# Altium integrated library Cypress PLD Ultra37000.IntLib: 166 symbols (part 12 of 12)
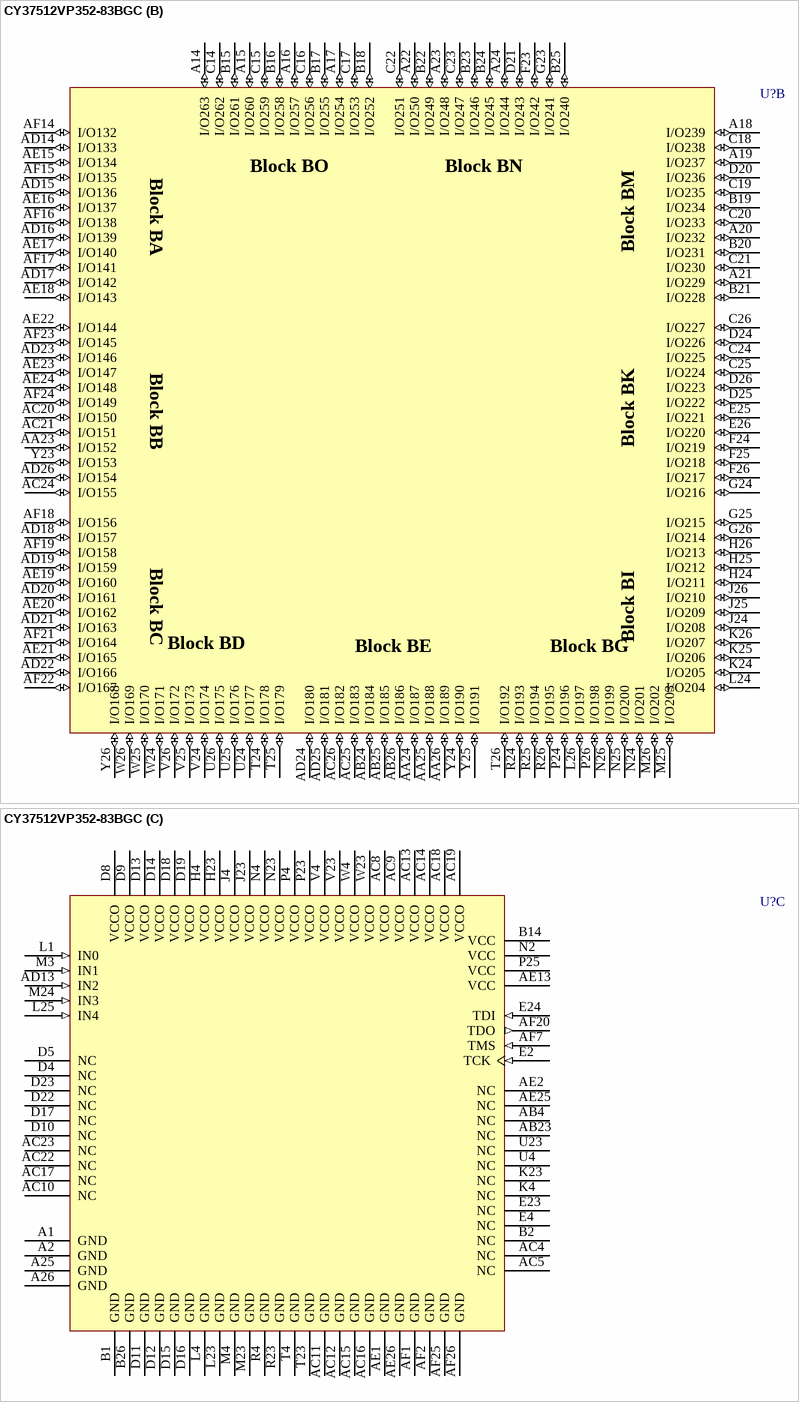
[diagram p101: symbol CY37512VP352-83BGC]

## CY37512VP352-83BGC
designator U?
Ultra37000 3.3V, ISR High-Performance CPLD; Published: 11-Dec-2002; LatestRevisionDate: 13-Apr-2006; LatestRevisionNote: IPC-7351 Footprint Added.; DatasheetVersion: 18-Apr-2001; PackageVersion: Mar-2001; PackageReference: BG352; Publisher: Altium Limited; PackageDescription: 388-Ball Ball Grid Array 1.27 mm Pitch; ComponentLink1Description: Manufacturer Link; ComponentLink1URL: http://www.cypress.com/; ComponentLink2Description: Datasheet; ComponentLink2URL: http://www.cypress.com/portal/server.pt/gateway/PTARGS_0_2_1524_209_259_43/http%3B/sjapp20.mis.cypress.com%3B7001/publishedcontent/publish/design_resources/datasheets/contents/cy37032p_5.pdf
footprint BG352 (BGA, 388-Leads, Body 35x35mm, Pitch 1.27mm)
3D model CY37512VP352-BG352 (388-Ball Ball Grid Array 1.27 mm Pitch)
part A pins: A3 I/O19 (io), A4 I/O15 (io), A5 I/O13 (io), A6 I/O34 (io), A7 I/O31 (io), A8 I/O28 (io), A9 I/O25 (io), A10 I/O10 (io), A11 I/O7 (io), A12 I/O4 (io), A13 I/O1 (io), AA1 I/O74 (io), AA2 I/O75 (io), AA3 I/O76 (io), AA4 I/O111 (io), AB1 I/O77 (io), AB2 I/O78 (io), AB3 I/O79 (io), AC1 I/O81 (io), AC2 I/O80 (io), AC3 I/O108 (io), AC6 I/O112 (io), AC7 I/O113 (io), AD1 I/O109 (io), AD2 I/O82 (io), AD3 I/O83 (io), AD4 I/O117 (io), AD5 I/O97 (io), AD6 I/O100 (io), AD7 I/O102 (io), AD8 I/O105 (io), AD9 I/O120 (io), AD10 I/O123 (io), AD11 I/O126 (io), AD12 I/O129 (io), AE3 I/O115 (io), AE4 I/O116 (io), AE5 I/O119 (io), AE6 I/O98 (io), AE7 I/O101 (io), AE8 I/O103 (io), AE9 I/O106 (io), AE10 I/O121 (io), AE11 I/O124 (io), AE12 I/O127 (io), AE14 I/O130 (io), AF3 I/O114 (io), AF4 I/O118 (io), AF5 I/O96 (io), AF6 I/O99 (io), AF8 I/O104 (io), AF9 I/O107 (io), AF10 I/O122 (io), AF11 I/O125 (io), AF12 I/O128 (io), AF13 I/O131 (io), B3 I/O18 (io), B4 I/O17 (io), B5 I/O14 (io), B6 I/O35 (io), B7 I/O32 (io), B8 I/O29 (io), B9 I/O26 (io), B10 I/O11 (io), B11 I/O8 (io), B12 I/O5 (io), B13 I/O2 (io), C1 I/O23 (io), C2 I/O38 (io), C3 I/O37 (io), C4 I/O16 (io), C5 I/O12 (io), C6 I/O33 (io), C7 I/O30 (io), C8 I/O27 (io), C9 I/O24 (io), C10 I/O9 (io), C11 I/O6 (io), C12 I/O3 (io), C13 I/O0 (io), D1 I/O39 (io), D2 I/O40 (io), D3 I/O36 (io), D6 I/O21 (io), D7 I/O20 (io), E1 I/O42 (io), E3 I/O41 (io), F1 I/O45 (io), F2 I/O44 (io), F3 I/O43 (io), F4 I/O22 (io), G1 I/O48 (io), G2 I/O47 (io), G3 I/O46 (io), G4 I/O63 (io), H1 I/O49 (io), H2 I/O50 (io), H3 I/O51 (io), J1 I/O52 (io), J2 I/O53 (io), J3 I/O54 (io), K1 I/O55 (io), K2 I/O56 (io), K3 I/O57 (io), L2 I/O59 (io), L3 I/O58 (io), M1 I/O61 (io), M2 I/O60 (io), N1 I/O64 (io), N3 I/O62 (io), P1 I/O65 (io), P2 I/O66 (io), P3 I/O67 (io), R1 I/O68 (io), R2 I/O69 (io), R3 I/O70 (io), T1 I/O71 (io), T2 I/O84 (io), T3 I/O85 (io), U1 I/O88 (io), U2 I/O87 (io), U3 I/O86 (io), V1 I/O91 (io), V2 I/O90 (io), V3 I/O89 (io), W1 I/O94 (io), W2 I/O93 (io), W3 I/O92 (io), Y1 I/O95 (io), Y2 I/O72 (io), Y3 I/O73 (io), Y4 I/O110 (io)
part B pins: A14 I/O263 (io), A15 I/O260 (io), A16 I/O257 (io), A17 I/O254 (io), A18 I/O239 (io), A19 I/O237 (io), A20 I/O232 (io), A21 I/O229 (io), A22 I/O250 (io), A23 I/O248 (io), A24 I/O244 (io), AA23 I/O152 (io), AA24 I/O187 (io), AA25 I/O188 (io), AA26 I/O189 (io), AB24 I/O184 (io), AB25 I/O185 (io), AB26 I/O186 (io), AC20 I/O150 (io), AC21 I/O151 (io), AC24 I/O155 (io), AC25 I/O183 (io), AC26 I/O182 (io), AD14 I/O133 (io), AD15 I/O136 (io), AD16 I/O139 (io), AD17 I/O142 (io), AD18 I/O157 (io), AD19 I/O159 (io), AD20 I/O161 (io), AD21 I/O163 (io), AD22 I/O166 (io), AD23 I/O146 (io), AD24 I/O180 (io), AD25 I/O181 (io), AD26 I/O154 (io), AE15 I/O134 (io), AE16 I/O137 (io), AE17 I/O140 (io), AE18 I/O143 (io), AE19 I/O160 (io), AE20 I/O162 (io), AE21 I/O165 (io), AE22 I/O144 (io), AE23 I/O147 (io), AE24 I/O148 (io), AF14 I/O132 (io), AF15 I/O135 (io), AF16 I/O138 (io), AF17 I/O141 (io), AF18 I/O156 (io), AF19 I/O158 (io), AF21 I/O164 (io), AF22 I/O167 (io), AF23 I/O145 (io), AF24 I/O149 (io), B15 I/O261 (io), B16 I/O258 (io), B17 I/O255 (io), B18 I/O252 (io), B19 I/O234 (io), B20 I/O231 (io), B21 I/O228 (io), B22 I/O249 (io), B23 I/O246 (io), B24 I/O245 (io), B25 I/O240 (io), C14 I/O262 (io), C15 I/O259 (io), C16 I/O256 (io), C17 I/O253 (io), C18 I/O238 (io), C19 I/O235 (io), C20 I/O233 (io), C21 I/O230 (io), C22 I/O251 (io), C23 I/O247 (io), C24 I/O225 (io), C25 I/O224 (io), C26 I/O227 (io), D20 I/O236 (io), D21 I/O243 (io), D24 I/O226 (io), D25 I/O222 (io), D26 I/O223 (io), E25 I/O221 (io), E26 I/O220 (io), F23 I/O242 (io), F24 I/O219 (io), F25 I/O218 (io), F26 I/O217 (io), G23 I/O241 (io), G24 I/O216 (io), G25 I/O215 (io), G26 I/O214 (io), H24 I/O211 (io), H25 I/O212 (io), H26 I/O213 (io), J24 I/O208 (io), J25 I/O209 (io), J26 I/O210 (io), K24 I/O205 (io), K25 I/O206 (io), K26 I/O207 (io), L24 I/O204 (io), L26 I/O197 (io), M25 I/O203 (io), M26 I/O202 (io), N24 I/O201 (io), N25 I/O200 (io), N26 I/O199 (io), P24 I/O196 (io), P26 I/O198 (io), R24 I/O193 (io), R25 I/O194 (io), R26 I/O195 (io), T24 I/O178 (io), T25 I/O179 (io), T26 I/O192 (io), U24 I/O177 (io), U25 I/O176 (io), U26 I/O175 (io), V24 I/O174 (io), V25 I/O173 (io), V26 I/O172 (io), W24 I/O171 (io), W25 I/O170 (io), W26 I/O169 (io), Y23 I/O153 (io), Y24 I/O190 (io), Y25 I/O191 (io), Y26 I/O168 (io)
part C pins: A1 GND (power), A2 GND (power), A25 GND (power), A26 GND (power), AB4 NC, AB23 NC, AC4 NC, AC5 NC, AC8 VCCO (power), AC9 VCCO (power), AC10 NC, AC11 GND (power), AC12 GND (power), AC13 VCCO (power), AC14 VCCO (power), AC15 GND (power), AC16 GND (power), AC17 NC, AC18 VCCO (power), AC19 VCCO (power), AC22 NC, AC23 NC, AD13 IN2 (in), AE1 GND (power), AE2 NC, AE13 VCC (power), AE25 NC, AE26 GND (power), AF1 GND (power), AF2 GND (power), AF7 TMS (in), AF20 TDO (out), AF25 GND (power), AF26 GND (power), B1 GND (power), B2 NC, B14 VCC (power), B26 GND (power), D4 NC, D5 NC, D8 VCCO (power), D9 VCCO (power), D10 NC, D11 GND (power), D12 GND (power), D13 VCCO (power), D14 VCCO (power), D15 GND (power), D16 GND (power), D17 NC, D18 VCCO (power), D19 VCCO (power), D22 NC, D23 NC, E2 TCK (in), E4 NC, E23 NC, E24 TDI (in), H4 VCCO (power), H23 VCCO (power), J4 VCCO (power), J23 VCCO (power), K4 NC, K23 NC, L1 IN0 (in), L4 GND (power), L23 GND (power), L25 IN4 (in), M3 IN1 (in), M4 GND (power), M23 GND (power), M24 IN3 (in), N2 VCC (power), N4 VCCO (power), N23 VCCO (power), P4 VCCO (power), P23 VCCO (power), P25 VCC (power), R4 GND (power), R23 GND (power), T4 GND (power), T23 GND (power), U4 NC, U23 NC, V4 VCCO (power), V23 VCCO (power), W4 VCCO (power), W23 VCCO (power)
part A text: Block AA; Block AO; Block AN; Block AM; Block AB; Block AL; Block AC; Block AK; Block AE; Block AG; Block AI
part B text: Block BA; Block BO; Block BN; Block BM; Block BB; Block BK; Block BC; Block BI; Block BD; Block BE; Block BG

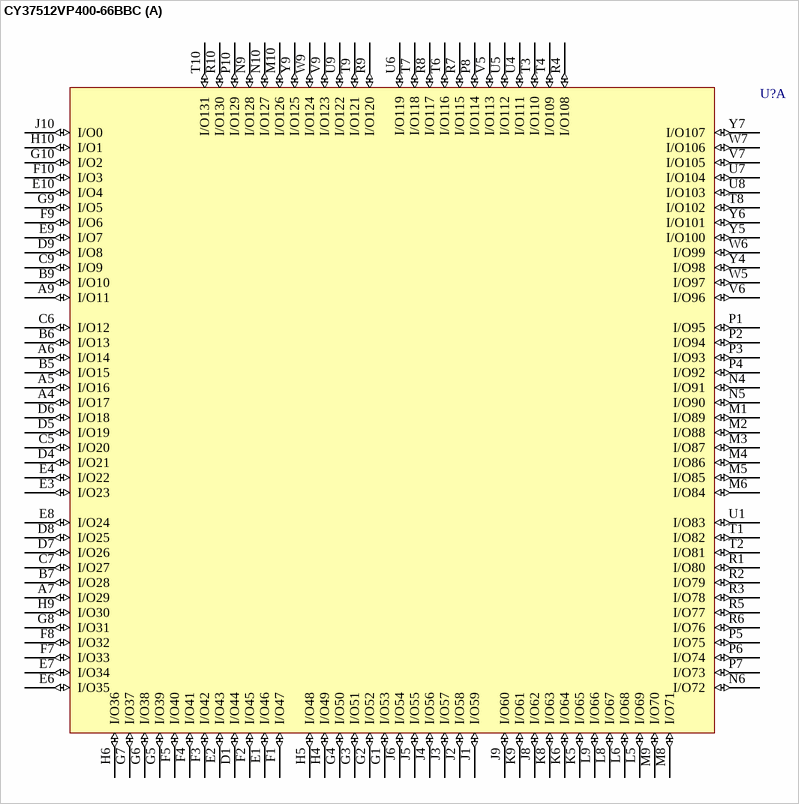
[diagram p85: symbol CY37512VP400-66BBC]

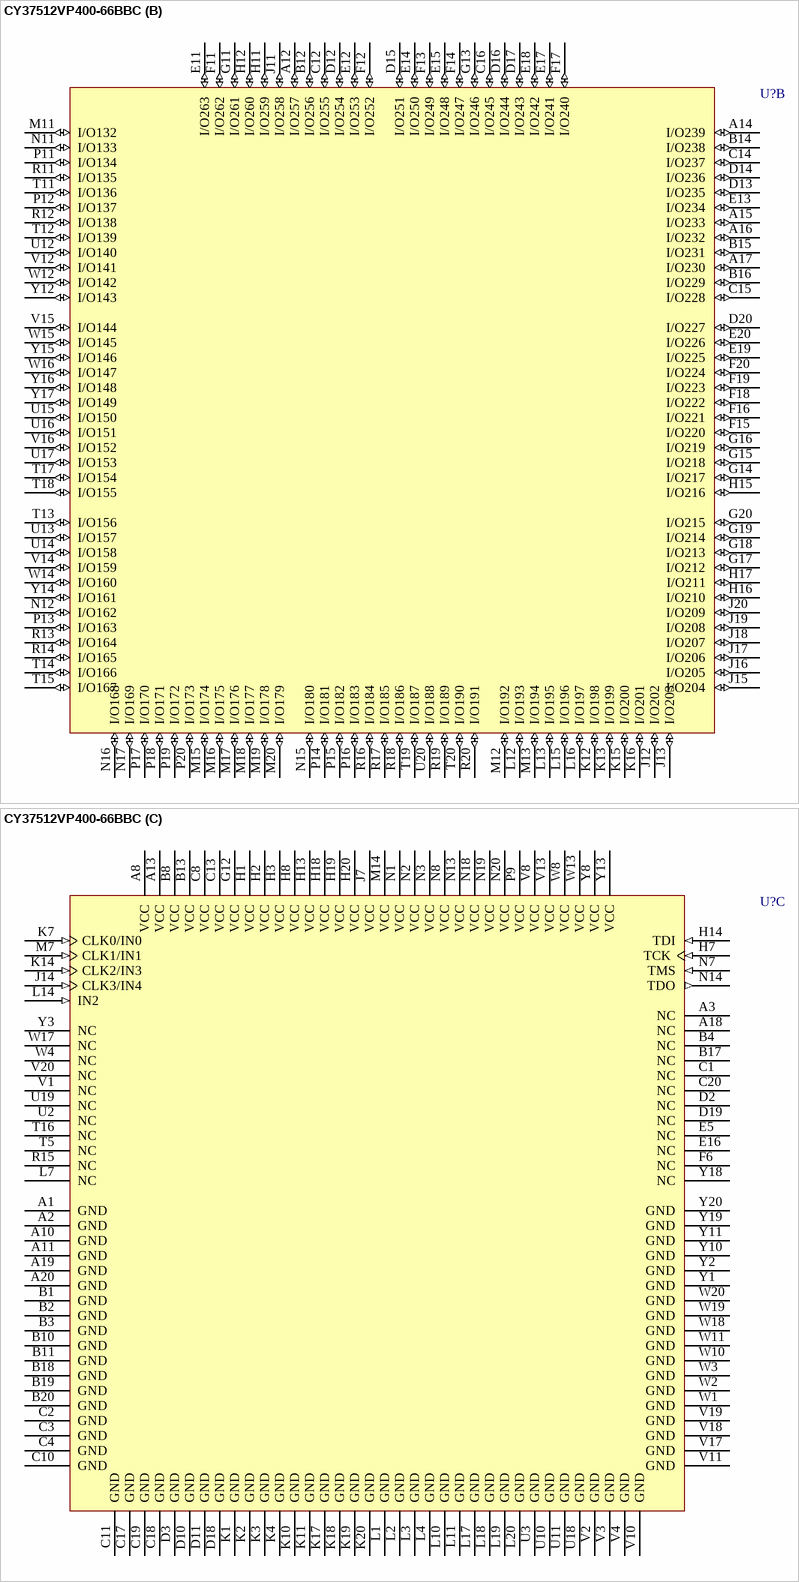
[diagram p86: symbol CY37512VP400-66BBC]

## CY37512VP400-66BBC
designator U?
Ultra37000 3.3V, ISR High-Performance CPLD; Published: 11-Dec-2002; LatestRevisionDate: 13-Apr-2006; LatestRevisionNote: IPC-7351 Footprint Added.; DatasheetVersion: 18-Apr-2001; PackageVersion: Mar-2001; PackageReference: BB400; Publisher: Altium Limited; PackageDescription: 400-Ball Fine Pitch Ball Grid Array 1 mm Pitch; ComponentLink1Description: Manufacturer Link; ComponentLink1URL: http://www.cypress.com/; ComponentLink2Description: Datasheet; ComponentLink2URL: http://www.cypress.com/portal/server.pt/gateway/PTARGS_0_2_1524_209_259_43/http%3B/sjapp20.mis.cypress.com%3B7001/publishedcontent/publish/design_resources/datasheets/contents/cy37032p_5.pdf
footprint BB400 (BGA, 400-Leads, Body 21x21mm, Pitch 1mm)
3D model CY37512VP400-BB400 (400-Ball Fine Pitch Ball Grid Array 1 mm Pitch)
part A pins: A4 I/O17 (io), A5 I/O16 (io), A6 I/O14 (io), A7 I/O29 (io), A9 I/O11 (io), B5 I/O15 (io), B6 I/O13 (io), B7 I/O28 (io), B9 I/O10 (io), C5 I/O20 (io), C6 I/O12 (io), C7 I/O27 (io), C9 I/O9 (io), D1 I/O44 (io), D4 I/O21 (io), D5 I/O19 (io), D6 I/O18 (io), D7 I/O26 (io), D8 I/O25 (io), D9 I/O8 (io), E1 I/O46 (io), E2 I/O43 (io), E3 I/O23 (io), E4 I/O22 (io), E6 I/O35 (io), E7 I/O34 (io), E8 I/O24 (io), E9 I/O7 (io), E10 I/O4 (io), F1 I/O47 (io), F2 I/O45 (io), F3 I/O42 (io), F4 I/O41 (io), F5 I/O40 (io), F7 I/O33 (io), F8 I/O32 (io), F9 I/O6 (io), F10 I/O3 (io), G1 I/O53 (io), G2 I/O52 (io), G3 I/O51 (io), G4 I/O50 (io), G5 I/O39 (io), G6 I/O38 (io), G7 I/O37 (io), G8 I/O31 (io), G9 I/O5 (io), G10 I/O2 (io), H4 I/O49 (io), H5 I/O48 (io), H6 I/O36 (io), H9 I/O30 (io), H10 I/O1 (io), J1 I/O59 (io), J2 I/O58 (io), J3 I/O57 (io), J4 I/O56 (io), J5 I/O55 (io), J6 I/O54 (io), J8 I/O62 (io), J9 I/O60 (io), J10 I/O0 (io), K5 I/O65 (io), K6 I/O64 (io), K8 I/O63 (io), K9 I/O61 (io), L5 I/O69 (io), L6 I/O68 (io), L8 I/O67 (io), L9 I/O66 (io), M1 I/O89 (io), M2 I/O88 (io), M3 I/O87 (io), M4 I/O86 (io), M5 I/O85 (io), M6 I/O84 (io), M8 I/O71 (io), M9 I/O70 (io), M10 I/O126 (io), N4 I/O91 (io), N5 I/O90 (io), N6 I/O72 (io), N9 I/O128 (io), N10 I/O127 (io), P1 I/O95 (io), P2 I/O94 (io), P3 I/O93 (io), P4 I/O92 (io), P5 I/O75 (io), P6 I/O74 (io), P7 I/O73 (io), P8 I/O114 (io), P10 I/O129 (io), R1 I/O80 (io), R2 I/O79 (io), R3 I/O78 (io), R4 I/O108 (io), R5 I/O77 (io), R6 I/O76 (io), R7 I/O115 (io), R8 I/O117 (io), R9 I/O120 (io), R10 I/O130 (io), T1 I/O82 (io), T2 I/O81 (io), T3 I/O110 (io), T4 I/O109 (io), T6 I/O116 (io), T7 I/O118 (io), T8 I/O102 (io), T9 I/O121 (io), T10 I/O131 (io), U1 I/O83 (io), U4 I/O111 (io), U5 I/O112 (io), U6 I/O119 (io), U7 I/O104 (io), U8 I/O103 (io), U9 I/O122 (io), V5 I/O113 (io), V6 I/O96 (io), V7 I/O105 (io), V9 I/O123 (io), W5 I/O97 (io), W6 I/O99 (io), W7 I/O106 (io), W9 I/O124 (io), Y4 I/O98 (io), Y5 I/O100 (io), Y6 I/O101 (io), Y7 I/O107 (io), Y9 I/O125 (io)
part B pins: A12 I/O257 (io), A14 I/O239 (io), A15 I/O233 (io), A16 I/O232 (io), A17 I/O230 (io), B12 I/O256 (io), B14 I/O238 (io), B15 I/O231 (io), B16 I/O229 (io), C12 I/O255 (io), C14 I/O237 (io), C15 I/O228 (io), C16 I/O245 (io), D12 I/O254 (io), D13 I/O235 (io), D14 I/O236 (io), D15 I/O251 (io), D16 I/O244 (io), D17 I/O243 (io), D20 I/O227 (io), E11 I/O263 (io), E12 I/O253 (io), E13 I/O234 (io), E14 I/O250 (io), E15 I/O248 (io), E17 I/O241 (io), E18 I/O242 (io), E19 I/O225 (io), E20 I/O226 (io), F11 I/O262 (io), F12 I/O252 (io), F13 I/O249 (io), F14 I/O247 (io), F15 I/O220 (io), F16 I/O221 (io), F17 I/O240 (io), F18 I/O222 (io), F19 I/O223 (io), F20 I/O224 (io), G11 I/O261 (io), G13 I/O246 (io), G14 I/O217 (io), G15 I/O218 (io), G16 I/O219 (io), G17 I/O212 (io), G18 I/O213 (io), G19 I/O214 (io), G20 I/O215 (io), H11 I/O259 (io), H12 I/O260 (io), H15 I/O216 (io), H16 I/O210 (io), H17 I/O211 (io), J11 I/O258 (io), J12 I/O202 (io), J13 I/O203 (io), J15 I/O204 (io), J16 I/O205 (io), J17 I/O206 (io), J18 I/O207 (io), J19 I/O208 (io), J20 I/O209 (io), K12 I/O198 (io), K13 I/O199 (io), K15 I/O200 (io), K16 I/O201 (io), L12 I/O193 (io), L13 I/O195 (io), L15 I/O196 (io), L16 I/O197 (io), M11 I/O132 (io), M12 I/O192 (io), M13 I/O194 (io), M15 I/O174 (io), M16 I/O175 (io), M17 I/O176 (io), M18 I/O177 (io), M19 I/O178 (io), M20 I/O179 (io), N11 I/O133 (io), N12 I/O162 (io), N15 I/O180 (io), N16 I/O168 (io), N17 I/O169 (io), P11 I/O134 (io), P12 I/O137 (io), P13 I/O163 (io), P14 I/O181 (io), P15 I/O182 (io), P16 I/O183 (io), P17 I/O170 (io), P18 I/O171 (io), P19 I/O172 (io), P20 I/O173 (io), R11 I/O135 (io), R12 I/O138 (io), R13 I/O164 (io), R14 I/O165 (io), R16 I/O184 (io), R17 I/O185 (io), R18 I/O186 (io), R19 I/O189 (io), R20 I/O191 (io), T11 I/O136 (io), T12 I/O139 (io), T13 I/O156 (io), T14 I/O166 (io), T15 I/O167 (io), T17 I/O154 (io), T18 I/O155 (io), T19 I/O187 (io), T20 I/O190 (io), U12 I/O140 (io), U13 I/O157 (io), U14 I/O158 (io), U15 I/O150 (io), U16 I/O151 (io), U17 I/O153 (io), U20 I/O188 (io), V12 I/O141 (io), V14 I/O159 (io), V15 I/O144 (io), V16 I/O152 (io), W12 I/O142 (io), W14 I/O160 (io), W15 I/O145 (io), W16 I/O147 (io), Y12 I/O143 (io), Y14 I/O161 (io), Y15 I/O146 (io), Y16 I/O148 (io), Y17 I/O149 (io)
part C pins: A1 GND (power), A2 GND (power), A3 NC, A8 VCC (power), A10 GND (power), A11 GND (power), A13 VCC (power), A18 NC, A19 GND (power), A20 GND (power), B1 GND (power), B2 GND (power), B3 GND (power), B4 NC, B8 VCC (power), B10 GND (power), B11 GND (power), B13 VCC (power), B17 NC, B18 GND (power), B19 GND (power), B20 GND (power), C1 NC, C2 GND (power), C3 GND (power), C4 GND (power), C8 VCC (power), C10 GND (power), C11 GND (power), C13 VCC (power), C17 GND (power), C18 GND (power), C19 GND (power), C20 NC, D2 NC, D3 GND (power), D10 GND (power), D11 GND (power), D18 GND (power), D19 NC, E5 NC, E16 NC, F6 NC, G12 VCC (power), H1 VCC (power), H2 VCC (power), H3 VCC (power), H7 TCK (in), H8 VCC (power), H13 VCC (power), H14 TDI (in), H18 VCC (power), H19 VCC (power), H20 VCC (power), J7 VCC (power), J14 CLK3/IN4 (in), K1 GND (power), K2 GND (power), K3 GND (power), K4 GND (power), K7 CLK0/IN0 (in), K10 GND (power), K11 GND (power), K14 CLK2/IN3 (in), K17 GND (power), K18 GND (power), K19 GND (power), K20 GND (power), L1 GND (power), L2 GND (power), L3 GND (power), L4 GND (power), L7 NC, L10 GND (power), L11 GND (power), L14 IN2 (in), L17 GND (power), L18 GND (power), L19 GND (power), L20 GND (power), M7 CLK1/IN1 (in), M14 VCC (power), N1 VCC (power), N2 VCC (power), N3 VCC (power), N7 TMS (in), N8 VCC (power), N13 VCC (power), N14 TDO (out), N18 VCC (power), N19 VCC (power), N20 VCC (power), P9 VCC (power), R15 NC, T5 NC, T16 NC, U2 NC, U3 GND (power), U10 GND (power), U11 GND (power), U18 GND (power), U19 NC, V1 NC, V2 GND (power), V3 GND (power), V4 GND (power), V8 VCC (power), V10 GND (power), V11 GND (power), V13 VCC (power), V17 GND (power), V18 GND (power), V19 GND (power), V20 NC, W1 GND (power), W2 GND (power), W3 GND (power), W4 NC, W8 VCC (power), W10 GND (power), W11 GND (power), W13 VCC (power), W17 NC, W18 GND (power), W19 GND (power), W20 GND (power), Y1 GND (power), Y2 GND (power), Y3 NC, Y8 VCC (power), Y10 GND (power), Y11 GND (power), Y13 VCC (power), Y18 NC, Y19 GND (power), Y20 GND (power)

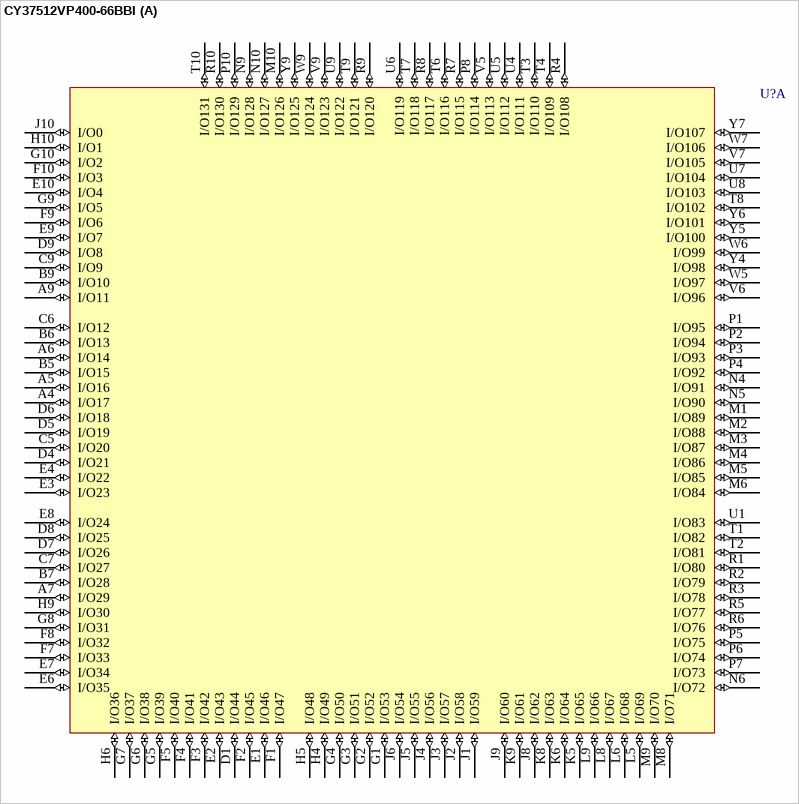
[diagram p87: symbol CY37512VP400-66BBI]

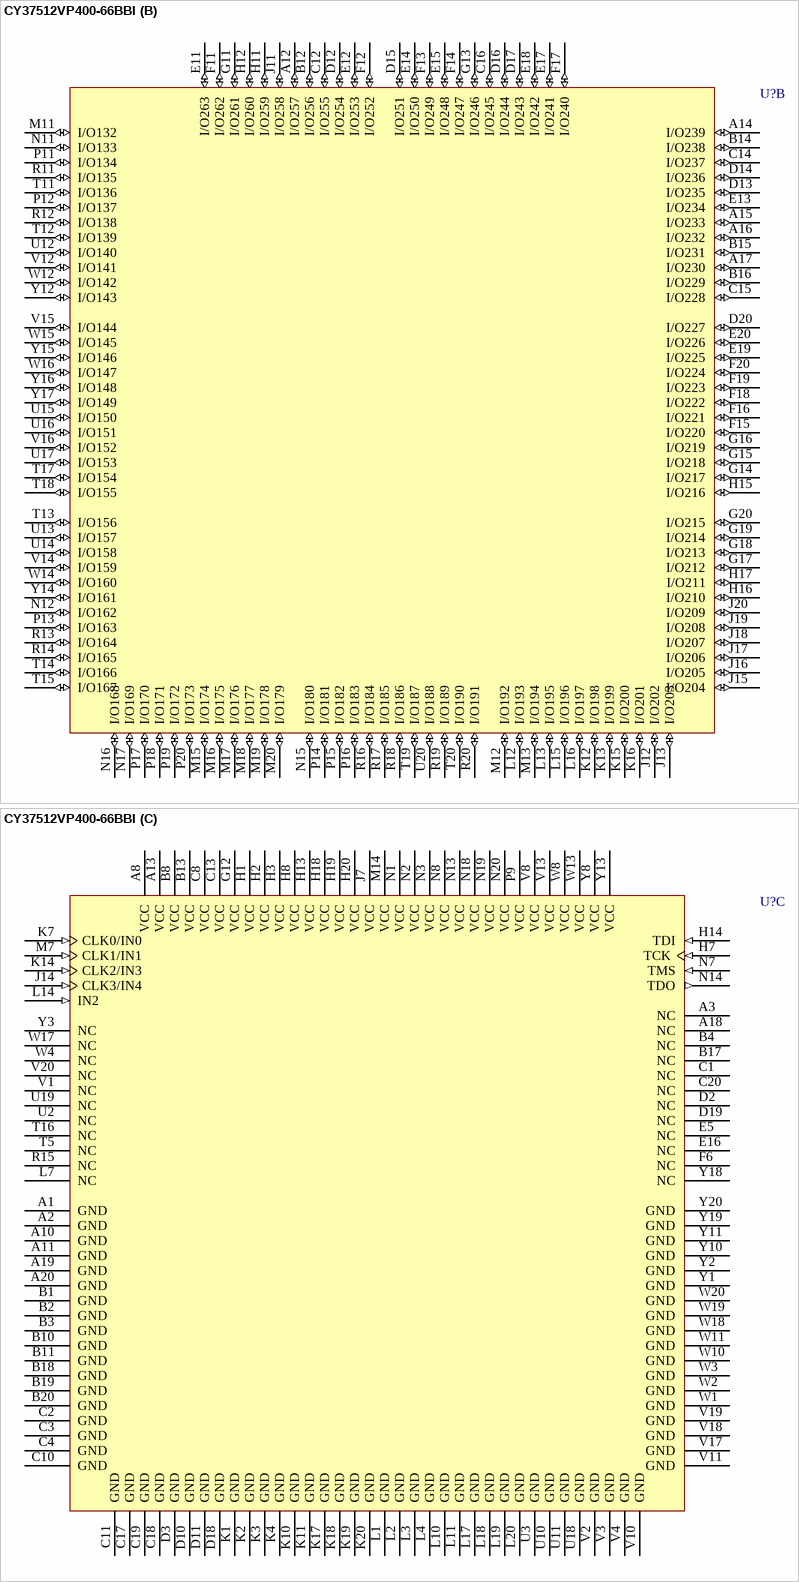
[diagram p88: symbol CY37512VP400-66BBI]

## CY37512VP400-66BBI
designator U?
Ultra37000 3.3V, ISR High-Performance CPLD; Published: 11-Dec-2002; LatestRevisionDate: 13-Apr-2006; LatestRevisionNote: IPC-7351 Footprint Added.; DatasheetVersion: 18-Apr-2001; PackageVersion: Mar-2001; PackageReference: BB400; Publisher: Altium Limited; PackageDescription: 400-Ball Fine Pitch Ball Grid Array 1 mm Pitch; ComponentLink1Description: Manufacturer Link; ComponentLink1URL: http://www.cypress.com/; ComponentLink2Description: Datasheet; ComponentLink2URL: http://www.cypress.com/portal/server.pt/gateway/PTARGS_0_2_1524_209_259_43/http%3B/sjapp20.mis.cypress.com%3B7001/publishedcontent/publish/design_resources/datasheets/contents/cy37032p_5.pdf
footprint BB400 (BGA, 400-Leads, Body 21x21mm, Pitch 1mm)
3D model CY37512VP400-BB400 (400-Ball Fine Pitch Ball Grid Array 1 mm Pitch)
part A pins: A4 I/O17 (io), A5 I/O16 (io), A6 I/O14 (io), A7 I/O29 (io), A9 I/O11 (io), B5 I/O15 (io), B6 I/O13 (io), B7 I/O28 (io), B9 I/O10 (io), C5 I/O20 (io), C6 I/O12 (io), C7 I/O27 (io), C9 I/O9 (io), D1 I/O44 (io), D4 I/O21 (io), D5 I/O19 (io), D6 I/O18 (io), D7 I/O26 (io), D8 I/O25 (io), D9 I/O8 (io), E1 I/O46 (io), E2 I/O43 (io), E3 I/O23 (io), E4 I/O22 (io), E6 I/O35 (io), E7 I/O34 (io), E8 I/O24 (io), E9 I/O7 (io), E10 I/O4 (io), F1 I/O47 (io), F2 I/O45 (io), F3 I/O42 (io), F4 I/O41 (io), F5 I/O40 (io), F7 I/O33 (io), F8 I/O32 (io), F9 I/O6 (io), F10 I/O3 (io), G1 I/O53 (io), G2 I/O52 (io), G3 I/O51 (io), G4 I/O50 (io), G5 I/O39 (io), G6 I/O38 (io), G7 I/O37 (io), G8 I/O31 (io), G9 I/O5 (io), G10 I/O2 (io), H4 I/O49 (io), H5 I/O48 (io), H6 I/O36 (io), H9 I/O30 (io), H10 I/O1 (io), J1 I/O59 (io), J2 I/O58 (io), J3 I/O57 (io), J4 I/O56 (io), J5 I/O55 (io), J6 I/O54 (io), J8 I/O62 (io), J9 I/O60 (io), J10 I/O0 (io), K5 I/O65 (io), K6 I/O64 (io), K8 I/O63 (io), K9 I/O61 (io), L5 I/O69 (io), L6 I/O68 (io), L8 I/O67 (io), L9 I/O66 (io), M1 I/O89 (io), M2 I/O88 (io), M3 I/O87 (io), M4 I/O86 (io), M5 I/O85 (io), M6 I/O84 (io), M8 I/O71 (io), M9 I/O70 (io), M10 I/O126 (io), N4 I/O91 (io), N5 I/O90 (io), N6 I/O72 (io), N9 I/O128 (io), N10 I/O127 (io), P1 I/O95 (io), P2 I/O94 (io), P3 I/O93 (io), P4 I/O92 (io), P5 I/O75 (io), P6 I/O74 (io), P7 I/O73 (io), P8 I/O114 (io), P10 I/O129 (io), R1 I/O80 (io), R2 I/O79 (io), R3 I/O78 (io), R4 I/O108 (io), R5 I/O77 (io), R6 I/O76 (io), R7 I/O115 (io), R8 I/O117 (io), R9 I/O120 (io), R10 I/O130 (io), T1 I/O82 (io), T2 I/O81 (io), T3 I/O110 (io), T4 I/O109 (io), T6 I/O116 (io), T7 I/O118 (io), T8 I/O102 (io), T9 I/O121 (io), T10 I/O131 (io), U1 I/O83 (io), U4 I/O111 (io), U5 I/O112 (io), U6 I/O119 (io), U7 I/O104 (io), U8 I/O103 (io), U9 I/O122 (io), V5 I/O113 (io), V6 I/O96 (io), V7 I/O105 (io), V9 I/O123 (io), W5 I/O97 (io), W6 I/O99 (io), W7 I/O106 (io), W9 I/O124 (io), Y4 I/O98 (io), Y5 I/O100 (io), Y6 I/O101 (io), Y7 I/O107 (io), Y9 I/O125 (io)
part B pins: A12 I/O257 (io), A14 I/O239 (io), A15 I/O233 (io), A16 I/O232 (io), A17 I/O230 (io), B12 I/O256 (io), B14 I/O238 (io), B15 I/O231 (io), B16 I/O229 (io), C12 I/O255 (io), C14 I/O237 (io), C15 I/O228 (io), C16 I/O245 (io), D12 I/O254 (io), D13 I/O235 (io), D14 I/O236 (io), D15 I/O251 (io), D16 I/O244 (io), D17 I/O243 (io), D20 I/O227 (io), E11 I/O263 (io), E12 I/O253 (io), E13 I/O234 (io), E14 I/O250 (io), E15 I/O248 (io), E17 I/O241 (io), E18 I/O242 (io), E19 I/O225 (io), E20 I/O226 (io), F11 I/O262 (io), F12 I/O252 (io), F13 I/O249 (io), F14 I/O247 (io), F15 I/O220 (io), F16 I/O221 (io), F17 I/O240 (io), F18 I/O222 (io), F19 I/O223 (io), F20 I/O224 (io), G11 I/O261 (io), G13 I/O246 (io), G14 I/O217 (io), G15 I/O218 (io), G16 I/O219 (io), G17 I/O212 (io), G18 I/O213 (io), G19 I/O214 (io), G20 I/O215 (io), H11 I/O259 (io), H12 I/O260 (io), H15 I/O216 (io), H16 I/O210 (io), H17 I/O211 (io), J11 I/O258 (io), J12 I/O202 (io), J13 I/O203 (io), J15 I/O204 (io), J16 I/O205 (io), J17 I/O206 (io), J18 I/O207 (io), J19 I/O208 (io), J20 I/O209 (io), K12 I/O198 (io), K13 I/O199 (io), K15 I/O200 (io), K16 I/O201 (io), L12 I/O193 (io), L13 I/O195 (io), L15 I/O196 (io), L16 I/O197 (io), M11 I/O132 (io), M12 I/O192 (io), M13 I/O194 (io), M15 I/O174 (io), M16 I/O175 (io), M17 I/O176 (io), M18 I/O177 (io), M19 I/O178 (io), M20 I/O179 (io), N11 I/O133 (io), N12 I/O162 (io), N15 I/O180 (io), N16 I/O168 (io), N17 I/O169 (io), P11 I/O134 (io), P12 I/O137 (io), P13 I/O163 (io), P14 I/O181 (io), P15 I/O182 (io), P16 I/O183 (io), P17 I/O170 (io), P18 I/O171 (io), P19 I/O172 (io), P20 I/O173 (io), R11 I/O135 (io), R12 I/O138 (io), R13 I/O164 (io), R14 I/O165 (io), R16 I/O184 (io), R17 I/O185 (io), R18 I/O186 (io), R19 I/O189 (io), R20 I/O191 (io), T11 I/O136 (io), T12 I/O139 (io), T13 I/O156 (io), T14 I/O166 (io), T15 I/O167 (io), T17 I/O154 (io), T18 I/O155 (io), T19 I/O187 (io), T20 I/O190 (io), U12 I/O140 (io), U13 I/O157 (io), U14 I/O158 (io), U15 I/O150 (io), U16 I/O151 (io), U17 I/O153 (io), U20 I/O188 (io), V12 I/O141 (io), V14 I/O159 (io), V15 I/O144 (io), V16 I/O152 (io), W12 I/O142 (io), W14 I/O160 (io), W15 I/O145 (io), W16 I/O147 (io), Y12 I/O143 (io), Y14 I/O161 (io), Y15 I/O146 (io), Y16 I/O148 (io), Y17 I/O149 (io)
part C pins: A1 GND (power), A2 GND (power), A3 NC, A8 VCC (power), A10 GND (power), A11 GND (power), A13 VCC (power), A18 NC, A19 GND (power), A20 GND (power), B1 GND (power), B2 GND (power), B3 GND (power), B4 NC, B8 VCC (power), B10 GND (power), B11 GND (power), B13 VCC (power), B17 NC, B18 GND (power), B19 GND (power), B20 GND (power), C1 NC, C2 GND (power), C3 GND (power), C4 GND (power), C8 VCC (power), C10 GND (power), C11 GND (power), C13 VCC (power), C17 GND (power), C18 GND (power), C19 GND (power), C20 NC, D2 NC, D3 GND (power), D10 GND (power), D11 GND (power), D18 GND (power), D19 NC, E5 NC, E16 NC, F6 NC, G12 VCC (power), H1 VCC (power), H2 VCC (power), H3 VCC (power), H7 TCK (in), H8 VCC (power), H13 VCC (power), H14 TDI (in), H18 VCC (power), H19 VCC (power), H20 VCC (power), J7 VCC (power), J14 CLK3/IN4 (in), K1 GND (power), K2 GND (power), K3 GND (power), K4 GND (power), K7 CLK0/IN0 (in), K10 GND (power), K11 GND (power), K14 CLK2/IN3 (in), K17 GND (power), K18 GND (power), K19 GND (power), K20 GND (power), L1 GND (power), L2 GND (power), L3 GND (power), L4 GND (power), L7 NC, L10 GND (power), L11 GND (power), L14 IN2 (in), L17 GND (power), L18 GND (power), L19 GND (power), L20 GND (power), M7 CLK1/IN1 (in), M14 VCC (power), N1 VCC (power), N2 VCC (power), N3 VCC (power), N7 TMS (in), N8 VCC (power), N13 VCC (power), N14 TDO (out), N18 VCC (power), N19 VCC (power), N20 VCC (power), P9 VCC (power), R15 NC, T5 NC, T16 NC, U2 NC, U3 GND (power), U10 GND (power), U11 GND (power), U18 GND (power), U19 NC, V1 NC, V2 GND (power), V3 GND (power), V4 GND (power), V8 VCC (power), V10 GND (power), V11 GND (power), V13 VCC (power), V17 GND (power), V18 GND (power), V19 GND (power), V20 NC, W1 GND (power), W2 GND (power), W3 GND (power), W4 NC, W8 VCC (power), W10 GND (power), W11 GND (power), W13 VCC (power), W17 NC, W18 GND (power), W19 GND (power), W20 GND (power), Y1 GND (power), Y2 GND (power), Y3 NC, Y8 VCC (power), Y10 GND (power), Y11 GND (power), Y13 VCC (power), Y18 NC, Y19 GND (power), Y20 GND (power)

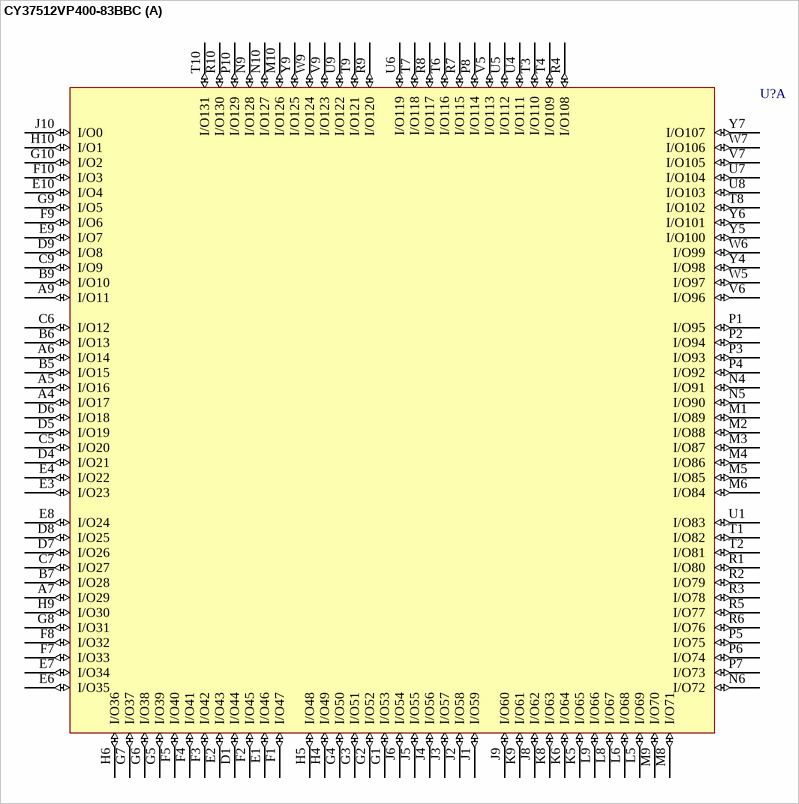
[diagram p89: symbol CY37512VP400-83BBC]

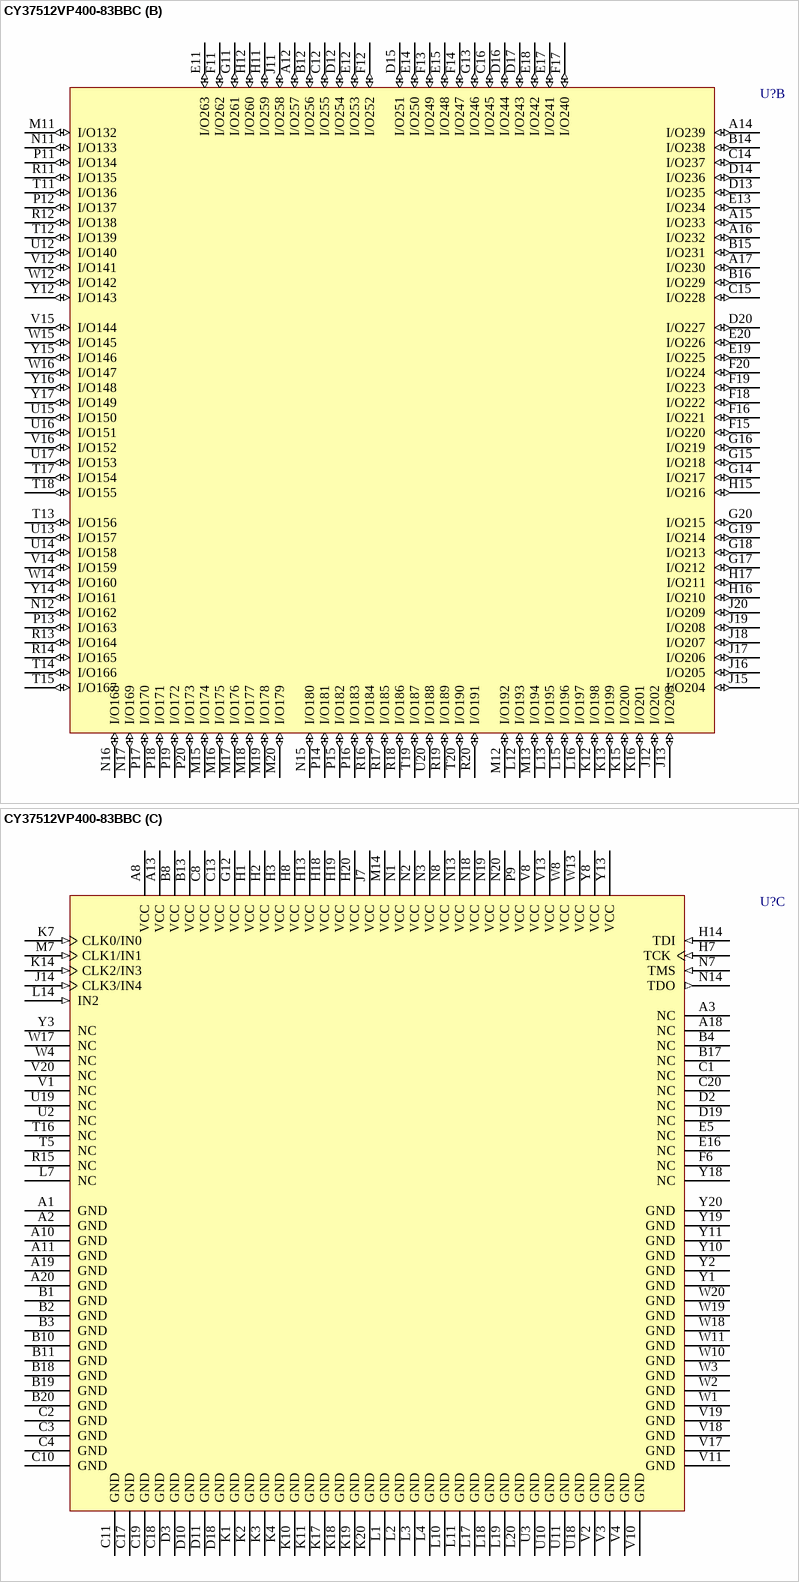
[diagram p90: symbol CY37512VP400-83BBC]

## CY37512VP400-83BBC
designator U?
Ultra37000 3.3V, ISR High-Performance CPLD; Published: 11-Dec-2002; LatestRevisionDate: 13-Apr-2006; LatestRevisionNote: IPC-7351 Footprint Added.; DatasheetVersion: 18-Apr-2001; PackageVersion: Mar-2001; PackageReference: BB400; Publisher: Altium Limited; PackageDescription: 400-Ball Fine Pitch Ball Grid Array 1 mm Pitch; ComponentLink1Description: Manufacturer Link; ComponentLink1URL: http://www.cypress.com/; ComponentLink2Description: Datasheet; ComponentLink2URL: http://www.cypress.com/portal/server.pt/gateway/PTARGS_0_2_1524_209_259_43/http%3B/sjapp20.mis.cypress.com%3B7001/publishedcontent/publish/design_resources/datasheets/contents/cy37032p_5.pdf
footprint BB400 (BGA, 400-Leads, Body 21x21mm, Pitch 1mm)
3D model CY37512VP400-BB400 (400-Ball Fine Pitch Ball Grid Array 1 mm Pitch)
part A pins: A4 I/O17 (io), A5 I/O16 (io), A6 I/O14 (io), A7 I/O29 (io), A9 I/O11 (io), B5 I/O15 (io), B6 I/O13 (io), B7 I/O28 (io), B9 I/O10 (io), C5 I/O20 (io), C6 I/O12 (io), C7 I/O27 (io), C9 I/O9 (io), D1 I/O44 (io), D4 I/O21 (io), D5 I/O19 (io), D6 I/O18 (io), D7 I/O26 (io), D8 I/O25 (io), D9 I/O8 (io), E1 I/O46 (io), E2 I/O43 (io), E3 I/O23 (io), E4 I/O22 (io), E6 I/O35 (io), E7 I/O34 (io), E8 I/O24 (io), E9 I/O7 (io), E10 I/O4 (io), F1 I/O47 (io), F2 I/O45 (io), F3 I/O42 (io), F4 I/O41 (io), F5 I/O40 (io), F7 I/O33 (io), F8 I/O32 (io), F9 I/O6 (io), F10 I/O3 (io), G1 I/O53 (io), G2 I/O52 (io), G3 I/O51 (io), G4 I/O50 (io), G5 I/O39 (io), G6 I/O38 (io), G7 I/O37 (io), G8 I/O31 (io), G9 I/O5 (io), G10 I/O2 (io), H4 I/O49 (io), H5 I/O48 (io), H6 I/O36 (io), H9 I/O30 (io), H10 I/O1 (io), J1 I/O59 (io), J2 I/O58 (io), J3 I/O57 (io), J4 I/O56 (io), J5 I/O55 (io), J6 I/O54 (io), J8 I/O62 (io), J9 I/O60 (io), J10 I/O0 (io), K5 I/O65 (io), K6 I/O64 (io), K8 I/O63 (io), K9 I/O61 (io), L5 I/O69 (io), L6 I/O68 (io), L8 I/O67 (io), L9 I/O66 (io), M1 I/O89 (io), M2 I/O88 (io), M3 I/O87 (io), M4 I/O86 (io), M5 I/O85 (io), M6 I/O84 (io), M8 I/O71 (io), M9 I/O70 (io), M10 I/O126 (io), N4 I/O91 (io), N5 I/O90 (io), N6 I/O72 (io), N9 I/O128 (io), N10 I/O127 (io), P1 I/O95 (io), P2 I/O94 (io), P3 I/O93 (io), P4 I/O92 (io), P5 I/O75 (io), P6 I/O74 (io), P7 I/O73 (io), P8 I/O114 (io), P10 I/O129 (io), R1 I/O80 (io), R2 I/O79 (io), R3 I/O78 (io), R4 I/O108 (io), R5 I/O77 (io), R6 I/O76 (io), R7 I/O115 (io), R8 I/O117 (io), R9 I/O120 (io), R10 I/O130 (io), T1 I/O82 (io), T2 I/O81 (io), T3 I/O110 (io), T4 I/O109 (io), T6 I/O116 (io), T7 I/O118 (io), T8 I/O102 (io), T9 I/O121 (io), T10 I/O131 (io), U1 I/O83 (io), U4 I/O111 (io), U5 I/O112 (io), U6 I/O119 (io), U7 I/O104 (io), U8 I/O103 (io), U9 I/O122 (io), V5 I/O113 (io), V6 I/O96 (io), V7 I/O105 (io), V9 I/O123 (io), W5 I/O97 (io), W6 I/O99 (io), W7 I/O106 (io), W9 I/O124 (io), Y4 I/O98 (io), Y5 I/O100 (io), Y6 I/O101 (io), Y7 I/O107 (io), Y9 I/O125 (io)
part B pins: A12 I/O257 (io), A14 I/O239 (io), A15 I/O233 (io), A16 I/O232 (io), A17 I/O230 (io), B12 I/O256 (io), B14 I/O238 (io), B15 I/O231 (io), B16 I/O229 (io), C12 I/O255 (io), C14 I/O237 (io), C15 I/O228 (io), C16 I/O245 (io), D12 I/O254 (io), D13 I/O235 (io), D14 I/O236 (io), D15 I/O251 (io), D16 I/O244 (io), D17 I/O243 (io), D20 I/O227 (io), E11 I/O263 (io), E12 I/O253 (io), E13 I/O234 (io), E14 I/O250 (io), E15 I/O248 (io), E17 I/O241 (io), E18 I/O242 (io), E19 I/O225 (io), E20 I/O226 (io), F11 I/O262 (io), F12 I/O252 (io), F13 I/O249 (io), F14 I/O247 (io), F15 I/O220 (io), F16 I/O221 (io), F17 I/O240 (io), F18 I/O222 (io), F19 I/O223 (io), F20 I/O224 (io), G11 I/O261 (io), G13 I/O246 (io), G14 I/O217 (io), G15 I/O218 (io), G16 I/O219 (io), G17 I/O212 (io), G18 I/O213 (io), G19 I/O214 (io), G20 I/O215 (io), H11 I/O259 (io), H12 I/O260 (io), H15 I/O216 (io), H16 I/O210 (io), H17 I/O211 (io), J11 I/O258 (io), J12 I/O202 (io), J13 I/O203 (io), J15 I/O204 (io), J16 I/O205 (io), J17 I/O206 (io), J18 I/O207 (io), J19 I/O208 (io), J20 I/O209 (io), K12 I/O198 (io), K13 I/O199 (io), K15 I/O200 (io), K16 I/O201 (io), L12 I/O193 (io), L13 I/O195 (io), L15 I/O196 (io), L16 I/O197 (io), M11 I/O132 (io), M12 I/O192 (io), M13 I/O194 (io), M15 I/O174 (io), M16 I/O175 (io), M17 I/O176 (io), M18 I/O177 (io), M19 I/O178 (io), M20 I/O179 (io), N11 I/O133 (io), N12 I/O162 (io), N15 I/O180 (io), N16 I/O168 (io), N17 I/O169 (io), P11 I/O134 (io), P12 I/O137 (io), P13 I/O163 (io), P14 I/O181 (io), P15 I/O182 (io), P16 I/O183 (io), P17 I/O170 (io), P18 I/O171 (io), P19 I/O172 (io), P20 I/O173 (io), R11 I/O135 (io), R12 I/O138 (io), R13 I/O164 (io), R14 I/O165 (io), R16 I/O184 (io), R17 I/O185 (io), R18 I/O186 (io), R19 I/O189 (io), R20 I/O191 (io), T11 I/O136 (io), T12 I/O139 (io), T13 I/O156 (io), T14 I/O166 (io), T15 I/O167 (io), T17 I/O154 (io), T18 I/O155 (io), T19 I/O187 (io), T20 I/O190 (io), U12 I/O140 (io), U13 I/O157 (io), U14 I/O158 (io), U15 I/O150 (io), U16 I/O151 (io), U17 I/O153 (io), U20 I/O188 (io), V12 I/O141 (io), V14 I/O159 (io), V15 I/O144 (io), V16 I/O152 (io), W12 I/O142 (io), W14 I/O160 (io), W15 I/O145 (io), W16 I/O147 (io), Y12 I/O143 (io), Y14 I/O161 (io), Y15 I/O146 (io), Y16 I/O148 (io), Y17 I/O149 (io)
part C pins: A1 GND (power), A2 GND (power), A3 NC, A8 VCC (power), A10 GND (power), A11 GND (power), A13 VCC (power), A18 NC, A19 GND (power), A20 GND (power), B1 GND (power), B2 GND (power), B3 GND (power), B4 NC, B8 VCC (power), B10 GND (power), B11 GND (power), B13 VCC (power), B17 NC, B18 GND (power), B19 GND (power), B20 GND (power), C1 NC, C2 GND (power), C3 GND (power), C4 GND (power), C8 VCC (power), C10 GND (power), C11 GND (power), C13 VCC (power), C17 GND (power), C18 GND (power), C19 GND (power), C20 NC, D2 NC, D3 GND (power), D10 GND (power), D11 GND (power), D18 GND (power), D19 NC, E5 NC, E16 NC, F6 NC, G12 VCC (power), H1 VCC (power), H2 VCC (power), H3 VCC (power), H7 TCK (in), H8 VCC (power), H13 VCC (power), H14 TDI (in), H18 VCC (power), H19 VCC (power), H20 VCC (power), J7 VCC (power), J14 CLK3/IN4 (in), K1 GND (power), K2 GND (power), K3 GND (power), K4 GND (power), K7 CLK0/IN0 (in), K10 GND (power), K11 GND (power), K14 CLK2/IN3 (in), K17 GND (power), K18 GND (power), K19 GND (power), K20 GND (power), L1 GND (power), L2 GND (power), L3 GND (power), L4 GND (power), L7 NC, L10 GND (power), L11 GND (power), L14 IN2 (in), L17 GND (power), L18 GND (power), L19 GND (power), L20 GND (power), M7 CLK1/IN1 (in), M14 VCC (power), N1 VCC (power), N2 VCC (power), N3 VCC (power), N7 TMS (in), N8 VCC (power), N13 VCC (power), N14 TDO (out), N18 VCC (power), N19 VCC (power), N20 VCC (power), P9 VCC (power), R15 NC, T5 NC, T16 NC, U2 NC, U3 GND (power), U10 GND (power), U11 GND (power), U18 GND (power), U19 NC, V1 NC, V2 GND (power), V3 GND (power), V4 GND (power), V8 VCC (power), V10 GND (power), V11 GND (power), V13 VCC (power), V17 GND (power), V18 GND (power), V19 GND (power), V20 NC, W1 GND (power), W2 GND (power), W3 GND (power), W4 NC, W8 VCC (power), W10 GND (power), W11 GND (power), W13 VCC (power), W17 NC, W18 GND (power), W19 GND (power), W20 GND (power), Y1 GND (power), Y2 GND (power), Y3 NC, Y8 VCC (power), Y10 GND (power), Y11 GND (power), Y13 VCC (power), Y18 NC, Y19 GND (power), Y20 GND (power)